# Altium footprint library PCB-QFP-WCH-QFN28-5x5.PcbLib: 1 footprints
Each footprint in its own frame and in the unit in brackets; x right, y up, seen from the top. Pads: shape width x height; smd on the part's side, far side on the other; paste and mask are expansions set on the pad; w line width, h text height; cw(c..) or ccw(c..) is an arc to the next point about the centre after c.
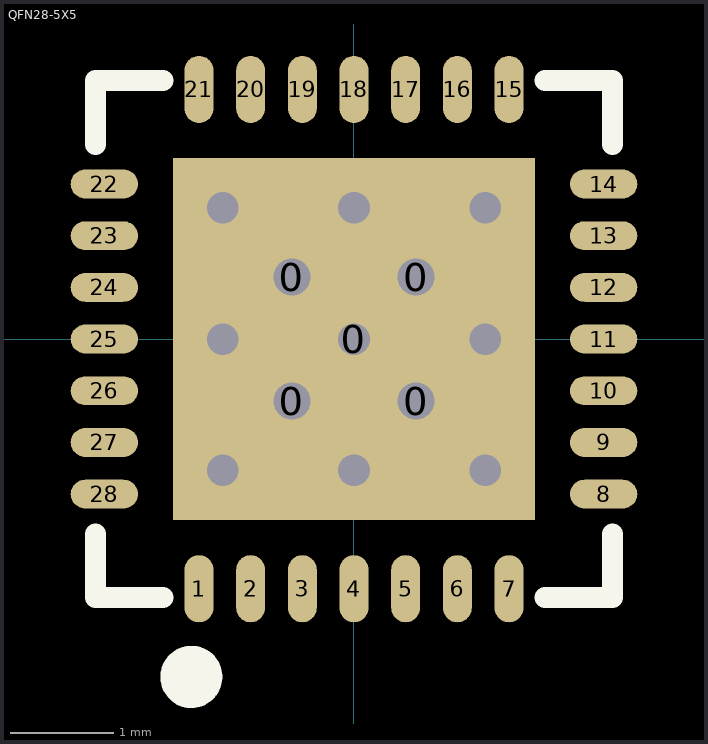
[diagram p0: the footprint, top view; thin cyan lines are the x and y axes]

## QFN28-5X5 [mm]
pads (33):
  round 0.508 hole 0.356: 0(-0.6,-0.6) 0(-0.6,0.6) 0(0.6,-0.6) 0(0.6,0.6)
  rect 3.5x3.5 smd mask+0.051: 0(0,0)
  oval 0.28x0.65 smd mask+0.051: 1(-1.5,-2.416) 2(-1,-2.416) 3(-0.5,-2.416) 4(0,-2.416) 5(0.5,-2.416) 6(1,-2.416) 7(1.5,-2.416) 15(1.5,2.416) 16(1,2.416) 17(0.5,2.416) 18(0,2.416) 19(-0.5,2.416) 20(-1,2.416) 21(-1.5,2.416)
  oval 0.65x0.28 smd mask+0.051: 8(2.416,-1.5) 9(2.416,-1) 10(2.416,-0.5) 11(2.416,0) 12(2.416,0.5) 13(2.416,1) 14(2.416,1.5) 22(-2.416,1.5) 23(-2.416,1) 24(-2.416,0.5) 25(-2.416,0) 26(-2.416,-0.5) 27(-2.416,-1) 28(-2.416,-1.5)
via 0,1.27 diameter 0.61 hole 0.305
via 1.27,1.27 diameter 0.61 hole 0.305
via 1.27,0 diameter 0.61 hole 0.305
via 1.27,-1.27 diameter 0.61 hole 0.305
via 0,-1.27 diameter 0.61 hole 0.305
via -1.27,-1.27 diameter 0.61 hole 0.305
via -1.27,0 diameter 0.61 hole 0.305
via -1.27,1.27 diameter 0.61 hole 0.305
via 0,0 diameter 0.61 hole 0.305
Top Overlay:
  circle w0.305: c-1.573,-3.268 r0.148
  lines w0.203: -2.5,-1.885 -2.5,-2.5 -1.85,-2.5 ; -2.5,1.885 -2.5,2.5 -1.85,2.5 ; 1.85,-2.5 2.5,-2.5 2.5,-1.885 ; 1.85,2.5 2.5,2.5 2.5,1.885